# Altium schematic symbol library TL431.Schlib: 1 symbol
Pins are listed as number, name and electrical type; pins without a type are passive.

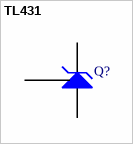
[diagram p0: symbol TL431]

## TL431
designator Q?
VREF SHUNT PREC
simulation model ZENER (Diode)
signal-integrity model D Zener
pins: 1 K, 2 Ref, 3 A